# Altium footprint library MOLEX_3_SMD.PcbLib: 1 footprints
Each footprint in its own frame and in the unit in brackets; x right, y up, seen from the top. Pads: shape width x height; smd on the part's side, far side on the other; paste and mask are expansions set on the pad; w line width, h text height; cw(c..) or ccw(c..) is an arc to the next point about the centre after c.
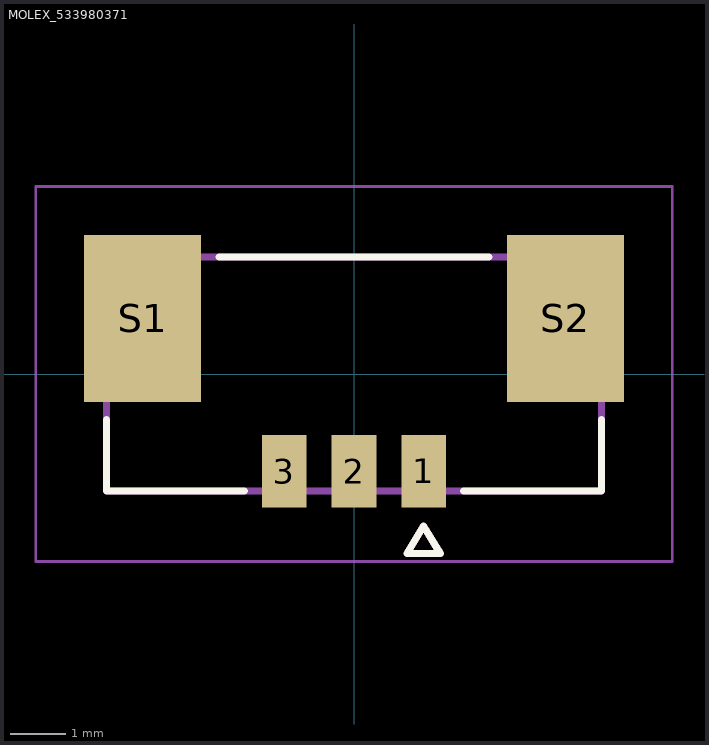
[diagram p0: the footprint, top view; thin cyan lines are the x and y axes]

## MOLEX_533980371 [mm]
pads (5):
  rect 0.8x1.3 smd mask+0: 1(1.25,-1.75) 2(0,-1.75) 3(-1.25,-1.75)
  rect 2.1x3 smd mask+0: S1(-3.8,1) S2(3.8,1)
Top Overlay:
  lines w0.127: -4.45,-0.82 -4.45,-2.1 -1.97,-2.1 ; -2.43,2.1 2.43,2.1 ; 1.97,-2.1 4.45,-2.1 4.45,-0.82 ; 0.95,-3.23 1.25,-2.73 1.55,-3.23 0.95,-3.23
Top Solder:
  region: 4.926,-0.576 2.674,-0.576 2.674,2.576 4.926,2.576
  region: -2.674,-0.576 -4.926,-0.576 -4.926,2.576 -2.674,2.576
  region: 1.726,-2.476 0.774,-2.476 0.774,-1.024 1.726,-1.024
  region: 0.476,-2.476 -0.476,-2.476 -0.476,-1.024 0.476,-1.024
  region: -0.774,-2.476 -1.726,-2.476 -1.726,-1.024 -0.774,-1.024
Mechanical 13:
  lines w0.127: -4.45,-2.1 -4.45,2.1 4.45,2.1 4.45,-2.1 -4.45,-2.1 ; 0.95,-3.23 1.25,-2.73 1.55,-3.23 0.95,-3.23
Mechanical 15:
  lines w0.05: -5.72,-3.37 5.72,-3.37 5.72,3.37 -5.72,3.37 -5.72,-3.37
3D body: height 4.67, standoff -0.07, extent -4.45,-2.159 4.45,2.041